# Altium integrated library rcl_PTH.IntLib: 10 symbols (part 1 of 2)
Pins are listed as number, name and electrical type; pins without a type are passive.

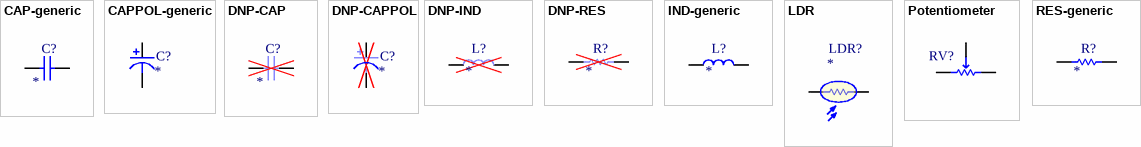
[diagram p0: symbols CAP-generic to RES-generic]

## CAP-generic
designator C?
Ceramic Capacitor PTH; Populated: Yes; Value: *; Manuf1: *; Manuf2: *; Manuf1Partnumber: *; Manuf2Partnumber: *; ClassName: *; ROHS: Yes; LifeCycle: Checked; HelpURL: *; Voltage: *
footprint C025-024X044
footprint C025-025X050
footprint C025-030X050
footprint C025-040X050
footprint C025-050X050
footprint C025-060X050
footprint C025_050-024X070
footprint C025_050-025X075
footprint C025_050-035X075
footprint C025_050-045X075
footprint C025_050-055X075
footprint C050-024X044
footprint C050-025X075
footprint C050-030X075
footprint C050-035X075
footprint C050-045X075
footprint C050-050X075
footprint C050-055X075
footprint C050-075X075
footprint C075-032X103
footprint C075-042X103
footprint C075-052X106
footprint C075-063X106
footprint C102-043X133
footprint C102-054X133
footprint C102-064X133
footprint C102_152-062X184
footprint C150-054X183
footprint C150-064X183
footprint C150-072X183
footprint C150-084X183
footprint C150-091X182
footprint C225-062X268
footprint C225-074X268
footprint C225-087X268
footprint C225-108X268
footprint C225-113X268
footprint C275-093X316
footprint C275-113X316
footprint C275-134X316
footprint C275-154X316
footprint C275-173X316
footprint C275-205X316
footprint EU25-10
footprint EU35-10
footprint EU35-12
footprint EU43-14
footprint EU45-16
footprint EU45-18
footprint XC10B5
footprint XC10B6
footprint XC15B5
footprint XC15B6
footprint XC15B8
footprint XC15B10
footprint XC22B7
footprint XC22B10
footprint XC27B11
footprint XC27B13
footprint XC27B15
footprint XC27B18
footprint XC27B21
footprint YC7B5
footprint YC10B4
footprint YC10B5
footprint YC12B5
footprint YC15B5
footprint YC15B6
footprint YC15B7
footprint YC22B7
footprint C Disc 5x2.5-2.5
footprint C Disc 8x2.5-5.0 (C Disc 5x2.5-5.0)
footprint C907U102MYVDBA7317
footprint PHE840MB6100MB05R17
footprint CAPAD1270-800X400 (Capacitor Axial, Pin spacing 12.7mm - Body Length 8mm X Body Diameter 4mm)
footprint CAPAD1524-1100X500 (Capacitor Axial, Pin spacing 15.24mm - Body Length 11mm X Body Diameter 5.0mm)
footprint CAPAD1778-1290X450 (Capacitor Axial, Pin spacing 17.78mm - Body Length 12.9mm X Body Diameter 4.5mm)
footprint CAPAD4830-4200X2700 (Capacitor Axial, Pin spacing 48.3mm - Body Length 42mm X Body Diameter 27mm)
footprint CAPAD3556-3150X1650 (Capacitor Axial, Pin spacing 35.56mm - Body Length 31.5mm X Body Diameter 16.5mm)
footprint CAPAD4830-4230X810 (Capacitor Axial, Pin spacing 48.3mm - Body Length 42.3mm X Body Diameter 8.1mm)
footprint CAPAD4830-4230X1470 (Capacitor Axial, Pin spacing 48.3mm - Body Length 42.3mm X Body Diameter 14.7mm)
footprint CAPAD4880-4400X3200 (Capacitor Axial, Pin spacing 48.8mm - Body Length 44mm X Body Diameter 32mm)
footprint CAPAD5080-4600X3300 (Capacitor Axial, Pin spacing 50.8mm - Body Length 46mm X Body Diameter 33mm)
footprint CAPAD5080-4600X3900 (Capacitor Axial, Pin spacing 50.8mm - Body Length 46mm X Body Diameter 39mm)
footprint CAPAD6800-5800X3450 (Capacitor Axial Diameter, Pin spacing 68mm - Body Length 58mm X Body Diameter 34.5mm)
footprint CAPAD7770-6770X2690 (Capacitor Axial, Pin spacing 77.7mm - Body Length 67.7mm X Body Diameter 26.9mm)
footprint CAPADV1650-4400X2700 (Capacitor Axial, Vertical Mount, Pin Spacing 16.5mm, Body Length 44mm X Body Diameter 27mm)
footprint CAPAR3810-1010X3400X2100 (Capacitor Axial Rectangular, Pin spacing 38.1mm - Body With 10.1mm X Body Length 34mm X Body Height 21mm)
footprint CAPA_CDE_941C16W1K-F (Capacitor Axial, Pin spacing 56mm - Body Length 46mm X Body Width 42.5mm Body Height 33.1mm)
footprint CAPA_CDE_941C16W1P5K-F (Capacitor Axial, Pin spacing 64mm - Body Length 54mm X Body Width 47mm Body Height 34.5mm)
footprint CAPR500-250X720X650 (Capacitor Radial, Pin spacing 5.0mm - Body With 2.5mm X Body Length 7.2mm X Body Height 6.5mm)
footprint CAPR500-300X720X650 (Capacitor Radial, Pin spacing 5.0mm - Body With 3.0mm X Body Length 7.2mm X Body Height 6.5mm)
footprint CAPR500-350X720X800 (Capacitor Radial, Pin spacing 5.0mm - Body With 3.5mm X Body Length 7.2mm X Body Height 8mm)
footprint CAPR500-350X720X850 (Capacitor Radial, Pin spacing 5.0mm - Body With 3.5mm X Body Length 7.2mm X Body Height 8.5mm)
footprint CAPR500-450X720X600 (Capacitor Radial, Pin spacing 5.0mm - Body With 4.5mm X Body Length 7.2mm X Body Height 6mm)
footprint CAPR500-450X720X600_a (Capacitor Radial, Pin spacing 5.0mm - Body With 4.5mm X Body Length 7.2mm X Body Height 6mm)
footprint CAPR500-450X730X950 (Capacitor Radial, Pin spacing 5.0mm - Body With 4.5mm X Body Length 7.3mm X Body Height 9.5mm)
footprint CAPR500-550X720X700 (Capacitor Radial, Pin spacing 5.0mm - Body With 5.5mm X Body Length 7.2mm X Body Height 7mm)
footprint CAPR500-600X720X1110 (Capacitor Radial, Pin spacing 5.0mm - Body With 6mm X Body Length 7.2mm X Body Height 11.1mm)
footprint CAPR500-600X750X1050 (Capacitor Radial, Pin spacing 5.0mm - Body Width 6mm X Body Length 7.5mm X Body Height 10.5mm)
footprint CAPR500-720X750X900 (Capacitor Radial, Pin spacing 5.0mm - Body With 7.2mm X Body Length 7.5mm X Body Height 9mm)
footprint CAPR500-750X750X900 (Capacitor Radial, Pin spacing 5.0mm - Body With 7.5mm X Body Length 7.5mm X Body Height 9mm)
footprint CAPR500-780X780X1300 (Capacitor Radial, Pin spacing 5.0mm - Body With 7.8mm X Body Length 7.8mm X Body Height 13mm)
footprint CAPR500-850X720X1400 (Capacitor Radial, Pin spacing 5.0mm - Body With 8.5mm X Body Length 7.2mm X Body Height 14mm)
footprint CAPR500-900X750X1100 (Capacitor Radial, Pin spacing 5.0mm - Body With 9mm X Body Length 7.5mm X Body Height 11mm)
footprint CAPR750-570X1030X1250 (Capacitor Radial, Pin spacing 7.5mm - Body With 5.7mm X Body Length 10.3mm X Body Height 12.5mm)
footprint CAPR750-720X1030X1250 (Capacitor Radial, Pin spacing 7.5mm - Body With 7.2mm X Body Length 10.3mm X Body Height 12.5mm)
footprint CAPR762-250X1000X650 (Capacitor Radial, Pin spacing 7.62mm - Body With 2.5mm X Body Length 10mm X Body Height 6.5mm)
footprint CAPR762-300X1000X800 (Capacitor Radial, Pin spacing 7.62mm - Body With 3mm X Body Length 10mm X Body Height 8mm)
footprint CAPR1000-400X1250X1000 (Capacitor Radial, Pin spacing 10mm - Body With 4mm X Body Length 12.5mm X Body Height 10mm)
footprint CAPR1000-400X1300X900 (Capacitor Radial, Pin spacing 10mm - Body With 4mm X Body Length 13mm X Body Height 9mm)
footprint CAPR1000-400X1300X950 (Capacitor Radial, Pin spacing 10mm - Body With 4mm X Body Length 13mm X Body Height 9.5mm)
footprint CAPR1000-500X1300X1100 (Capacitor Radial, Pin spacing 10mm - Body With 5mm X Body Length 13mm X Body Height 11mm)
footprint CAPR1000-520X1320X1200 (Capacitor Radial, Pin spacing 10mm - Body With 5mm X Body Length 13mm X Body Height 11mm)
footprint CAPR1000-600X1300X1200 (Capacitor Radial, Pin spacing 10mm - Body With 6mm X Body Length 13mm X Body Height 12mm)
footprint CAPR1020-390X1350X750 (Capacitor Radial, Pin spacing 10.2mm - Body With 3.9mm X Body Length 13.5mm X Body Height 7.5mm)
footprint CAPR1020-510X1350X1050 (Capacitor Radial, Pin spacing 10.2mm - Body With 5.1mm X Body Length 13.5mm X Body Height 10.5mm)
footprint CAPR1250-550X1550X1200 (Capacitor Radial, Pin spacing 12.5mm - Body With 5mm X Body Length 15mm X Body Height 11.5mm)
footprint CAPR1500-500X1800X1050 (Capacitor Radial, Pin spacing 15.0mm - Body With 5mm X Body Length 18mm X Body Height 10.5mm)
footprint CAPR1500-500X1800X1100 (Capacitor Radial, Pin spacing 15.0mm - Body Width 5mm X Body Length 18mm X Body Height 11mm)
footprint CAPR1500-530X1780X1330 (Capacitor Radial, Pin spacing 15.0mm - Body With 5mm X Body Length 17.5mm X Body Height 13mm)
footprint CAPR1500-550X1800X1050 (Capacitor Radial, Pin spacing 15.0mm - Body With 5.5mm X Body Length 18mm X Body Height 10.5mm)
footprint CAPR1500-600X1800X1250 (Capacitor Radial, Pin spacing 15.0mm - Body With 6mm X Body Length 18mm X Body Height 12.5mm)
footprint CAPR1500-650X1800X1250 (Capacitor Radial, Pin spacing 15.0mm - Body With 6.5mm X Body Length 18mm X Body Height 12.5mm)
footprint CAPR1500-700X1750X1350 (Capacitor Radial, Pin spacing 15.0mm - Body With 7mm X Body Length 17.5mm X Body Height 13.5mm)
footprint CAPR1500-700X1800X1250 (Capacitor Radial, Pin spacing 15.0mm - Body With 7mm X Body Length 18mm X Body Height 12.5mm)
footprint CAPR1500-700X1800X1400 (Capacitor Radial, Pin spacing 15.0mm - Body With 7mm X Body Length 18mm X Body Height 14mm)
footprint CAPR1500-800X1800X1500 (Capacitor Radial, Pin spacing 15.0mm - Body With 8mm X Body Length 18mm X Body Height 15mm)
footprint CAPR1500-900X1800X1750 (Capacitor Radial, Pin spacing 15.0mm - Body Width 9mm X Body Length 18mm X Body Height 17.5mm)
footprint CAPR1500-1000X1800X1800 (Capacitor Radial, Pin spacing 15.0mm - Body Width 10mm X Body Length 18mm X Body Height 18mm)
footprint CAPR1520-520X1850X1050 (Capacitor Radial, Pin spacing 15.2mm - Body With 5.2mm X Body Length 18.5mm X Body Height 10.5mm)
footprint CAPR1520-1050X1850X1050 (Capacitor Radial, Pin spacing 15.2mm - Body With 10.5mm X Body Length 18.5mm X Body Height 10.5mm)
footprint CAPR2250-600X2650X1500 (Capacitor Radial, Pin spacing 22.5.0mm - Body With 6mm X Body Length 26.5mm X Body Height 15mm)
footprint CAPR2250-600X2650X1500_A (Capacitor Radial, Pin spacing 22.5.0mm - Body With 6mm X Body Length 26.5mm X Body Height 15mm)
footprint CAPR2250-700X2600X1600 (Capacitor Radial, Pin spacing 22.5.0mm - Body With 7mm X Body Length 26.5mm X Body Height 16mm)
footprint CAPR2250-700X2650X1650 (Capacitor Radial, Pin spacing 22.5.0mm - Body With 7mm X Body Length 26.5mm X Body Height 16.5mm)
footprint CAPR2250-800X2700X1700 (Capacitor Radial, Pin spacing 22.5mm - Body Width 8mm X Body Length 27mm X Body Height 17mm)
footprint CAPR2250-820X2580X1760 (Capacitor Radial, Pin spacing 22.5mm - Body With 8.2mm X Body Length 25.8mm X Body Height 17.6mm)
footprint CAPR2250-850X2650X1650 (Capacitor Radial, Pin spacing 22.5mm - Body With 8.5mm X Body Length 26.5mm X Body Height 16.5mm)
footprint CAPR2250-850X2650X1850 (Capacitor Radial, Pin spacing 22.5mm - Body With 8.5mm X Body Length 26.5mm X Body Height 18.5mm)
footprint CAPR2250-900X2600X1800 (Capacitor Radial, Pin spacing 22.5mm - Body With 9mm X Body Length 26mm X Body Height 18mm)
footprint CAPR2250-1050X2650X1650 (Capacitor Radial, Pin spacing 22.5mm - Body With 10.5mm X Body Length 26.5mm X Body Height 16.5mm)
footprint CAPR2250-1050X2650X1900 (Capacitor Radial, Pin spacing 22.5mm - Body With 10.5mm X Body Length 26.5mm X Body Height 19mm)
footprint CAPR2250-1050X2650X2050 (Capacitor Radial, Pin spacing 22.5mm - Body With 10.5mm X Body Length 26.5mm X Body Height 20.5mm)
footprint CAPR2250-1100X2650X2050 (Capacitor Radial, Pin spacing 22.5mm - Body With 11mm X Body Length 26.5mm X Body Height 20.5mm)
footprint CAPR2250-1100X2650X2100 (Capacitor Radial, Pin spacing 22.5mm - Body With 11mm X Body Length 26.5mm X Body Height 21mm)
footprint CAPR2250-1200X2700X2200 (Capacitor Radial, Pin spacing 22.5mm - Body With 12mm X Body Length 27mm X Body Height 22mm)
footprint CAPR2750-900X3100X1900 (Capacitor Radial, Pin spacing 27.5mm - Body Width 9mm X Body Length 31mm X Body Height 19mm)
footprint CAPR2750-900X3150X1900 (Capacitor Radial, Pin spacing 27.5mm - Body Width 9mm X Body Length 31.5mm X Body Height 19mm)
footprint CAPR2750-1100X3150X2100 (Capacitor Radial, Pin spacing 27.5mm - Body With 11mm X Body Length 31.5mm X Body Height 21mm)
footprint CAPR2750-1100X3150X2100_A (Capacitor Radial, Pin spacing 27.5mm - Body With 11mm X Body Length 31.5mm X Body Height 21mm)
footprint CAPR2750-1100X3200X2100 (Capacitor Radial, Pin spacing 27.5mm - Body With 11mm X Body Length 32mm X Body Height 21mm)
footprint CAPR2750-1300X3150X2400 (Capacitor Radial, Pin spacing 27.5mm - Body With 13mm X Body Length 31.5mm X Body Height 24mm)
footprint CAPR2750-1350X3150X2300 (Capacitor Radial, Pin spacing 27.5mm - Body With 13.5mm X Body Length 31.5mm X Body Height 23mm)
footprint CAPR2750-1500X3150X2600 (Capacitor Radial, Pin spacing 27.5mm - Body With 15.0mm X Body Length 31.5mm X Body Height 26mm)
footprint CAPR2750-1700X3150X2900 (Capacitor Radial, Pin spacing 27.5mm - Body With 17mm X Body Length 31.5mm X Body Height 29mm)
footprint CAPR2750-1700X3150X3450 (Capacitor Radial, Pin spacing 27.5mm - Body With 17mm X Body Length 31.5mm X Body Height 34.5mm)
footprint CAPR2750-1800X3150X2750 (Capacitor Radial, Pin spacing 27.5mm - Body With 18mm X Body Length 31.5mm X Body Height 27.5mm)
footprint CAPR2750-1800X3200X2800 (Capacitor Radial, Pin spacing 27.5mm - Body With 18mm X Body Length 32mm X Body Height 28mm)
footprint CAPR2750-2000X3200X3500 (Capacitor Radial, Pin spacing 27.5mm - Body With 20mm X Body Length 32mm X Body Height 35mm)
footprint CAPR2750-2200X3150X3650 (Capacitor Radial, Pin spacing 27.5mm - Body With 22mm X Body Length 31.5mm X Body Height 36.5mm)
footprint CAPR3750-1400X4150X2500 (Capacitor Radial, Pin spacing 37.5mm - Body Width 14mm X Body Length 41.5mm X Body Height 25mm)
footprint CAPR3750-1700X4150X2900 (Capacitor Radial, Pin spacing 37.5mm - Body Width 17mm X Body Length 41.5mm X Body Height 29mm)
footprint CAPR3750-1900X4150X3200 (Capacitor Radial, Pin spacing 37.5mm - Body With 19mm X Body Length 41.5mm X Body Height 32mm)
footprint CAPR3750-1950X4200X3400 (Capacitor Radial, Pin spacing 37.5mm - Body With 19.5mm X Body Length 42mm X Body Height 34mm)
footprint CAPR3750-2000X4150X3950 (Capacitor Radial, Pin spacing 37.5mm - Body Width 20mm X Body Length 41.5mm X Body Height 39.5mm)
footprint CAPR3750-2000X4150X3950_a (Capacitor Radial, Pin spacing 37.5mm - Body Width 20mm X Body Length 41.5mm X Body Height 39.5mm)
footprint CAPR3750-2030X4180X4010 (Capacitor Radial, Pin spacing 37.5mm - Body With 20.3mm X Body Length 41.8mm X Body Height 40.1mm)
footprint CAPR3750-2150X4300X3850 (Capacitor Radial, Pin spacing 37.5mm, Body Width 21.5mm X Body Length 43mm X Body Height 38.5mm)
footprint CAPR3750-2150X4300X3850-Q4 (Capacitor Radial, 4 Pin spacing 37.5mm X 10.2mm, Body Width 21.5mm X Body Length 43mm X Body Height 38.5mm)
footprint CAPR3750-2400X4150X1900 (Capacitor Radial, Pin spacing 37.5mm - Body With 24mm X Body Length 41.5mm X Body Height 19mm)
footprint CAPR3750-2400X4150X4550 (Capacitor Radial, Pin spacing 37.5mm - Body With 24mm X Body Length 41.5mm X Body Height 45.5mm)
footprint CAPR3750-2400X4200X1800 (Capacitor Radial, Pin spacing 37.5mm - Body With 24mm X Body Length 42mm X Body Height 18mm)
footprint CAPR3750-2800X4150X4250 (Capacitor Radial, Pin spacing 37.5mm - Body With 28mm X Body Length 41.5mm X Body Height 42.5mm)
footprint CAPR3750-3000X4200X4500 (Capacitor Radial, Pin spacing 37.5mm, Body Width 30mm X Body Length 42mm X Body Height 45mm)
footprint CAPR3850-2000X4150X3950 (Capacitor Radial, Pin spacing 38.5mm - Body With 20mm X Body Length 41.5mm X Body Height 39.5mm)
footprint CAPRB1000W60L800T500H1200 (Capacitor Radial Disk Button, Lead spacing 10mm - Body Diameter 8mm X Body Width 5mm X Body Height 12mm)
footprint CAPRB_MURATA_DE2F3KY103MA3BM02 (Capacitor Radial Button, Pin spacing 7.62mm - Body Diameter  14mm X Body Width 5mm X Body Height 17mm)
footprint CAPRB_MURATA_DEBE33D103ZA3B (Capacitor Radial Button, Pin spacing 7.5mm - Body Diameter  16mm X Body Width 5mm X Body Height 19mm)
footprint CAPRB_MURATA_DEBF33D472ZN2A (Capacitor Radial Button, Pin spacing 5mm - Body Diameter  9mm X Body Width 5mm X Body Height 12mm)
footprint CAPRB_MURATA_DEC1X3J150JC4B (Capacitor Radial Button, Pin spacing 10mm - Body Diameter  8mm X Body Width 7mm X Body Height 11mm)
footprint CAPRB_MURATA_DEC1X3J220JC4B (Capacitor Radial Button, Pin spacing 10mm - Body Diameter  9mm X Body Width 7mm X Body Height 12mm)
footprint CAPRB_MURATA_DECB33J101KC4B (Capacitor Radial Button, Pin spacing 7.62mm - Body Diameter  9mm X Body Width 7mm X Body Height 12mm)
footprint CAPRB_MURATA_DECB33J101KC4B_a (Capacitor Radial Button, Pin spacing  10mm - Body Diameter  9mm X Body Width 7mm X Body Height 12mm)
footprint CAPRB_MURATA_DECB33J471KC4B (Capacitor Radial Button, Pin spacing 7.62mm - Body Diameter  10mm X Body Width 7mm X Body Height 12mm)
footprint CAPRB_MURATA_DHR4E4C102K2FB (Capacitor Radial Button, Pin spacing 12.7mm - Body Diameter  18mm X Body Width 8.2mm X Body Height 22mm)
footprint CAPRB_MURATA_DHRE4AD222Z4QB (Capacitor Radial Button, Pin spacing 9.5mm - Body Diameter  15mm X Body Width 7mm X Body Height 20mm)
footprint CAPRB_VISHAY_D229C20C0JH63L2R (Capacitor Radial Button, Pin spacing 2.5mm - Body Diameter  5mm X Body Width 3.5mm X Body Height 6.5mm)
footprint CAPRB_VISHAY_WYO472 (Capacitor Radial Button, Pin spacing 2.5mm - Body Diameter  12mm X Body Width 4.5mm X Body Height 15mm)
footprint CAPRD_ELECTRONICON_E54.G12-144P31 (Capacitor Radial Diameter, 5 Pin - Body Length 120mm X Body Diameter 50mm)
footprint CAPRD_ELECTRONICON_E54.G95-803P30 (Capacitor Radial Diameter, 5 Pin - Body Length 95mm X Body Diameter 50mm)
footprint CAPRD_ELECTRONICON_E54.G95-803P31 (Capacitor Radial Diameter, 5 Pin - Body Length 95mm X Body Diameter 50mm)
footprint CAPRR250-250X400X550 (Capacitor Radial, Pin spacing 2mm - Body With 2.5mm X Body Length 4mm X Body Height 5.5mm)
footprint CAPRR254-140X450X600 (Capacitor Radial, Pin spacing 2.54mm - Body With 1.4mm X Body Length 4.5mm X Body Height 6mm)
footprint CAPRR254-254X381X381 (Capacitor Radial Rounded, Pin spacing 2.54mm - Body With 2.54mm X Body Length 3.81mm X Body Height 3.81mm)
footprint CAPRR254-254X381X508 (Capacitor Radial Rounded, Pin spacing 2.54mm - Body With 2.54mm X Body Length 3.81mm X Body Height 5.08mm)
footprint CAPRR254-254X381X685 (Capacitor Radial Rounded (KEMET C315), Pin spacing 2.54mm - Body With 2.54mm X Body Length 3.81mm X Body Height 6.85mm)
footprint CAPRR254-254X500X350 (Capacitor Radial, Pin spacing 2.54mm - Body With 2.54mm X Body Length 5.00mm X Body Height 3.5mm)
footprint CAPRR254-318X508X660 (Capacitor Radial Rounded, Pin spacing 2.54mm - Body With 3.18mm X Body Length 5.08mm X Body Height 6.6mm)
footprint CAPRR254-318X508X812 (Capacitor Radial Rounded, (KEMET C320) Pin spacing 2.54mm - Body With 3.18mm X Body Length 5.08mm X Body Height 8.12mm (6.6+1.52))
footprint CAPRR500-350X550X600 (Capacitor Radial, Pin spacing 2mm - Body With 3.5mm X Body Length 5.5mm X Body Height 6mm)
footprint CAPRR500-400X550X1000 (Capacitor Radial Rounded, Pin spacing 5.00mm - Body With 4.00mm X Body Length 5.50mm X Body Height 10mm)
footprint CAPRR500-430X790X720 (Capacitor Radial Rounded, Pin spacing 5.00mm - Body With 4.30mm X Body Length 7.90mm X Body Height 7.2mm)
footprint CAPRR508-250X750X700 (Capacitor Radial Rounded, Pin spacing 5.08mm - Body With 2.5mm X Body Length 7.5mm X Body Height 7.0mm)
footprint CAPRR508-254X381X584 (Capacitor Radial Rounded (KEMET C317), Pin spacing 5.08mm - Body With 2.54mm X Body Length 3.81mm X Body Height 5.84mm)
footprint CAPRR508-318X508X660 (Capacitor Radial Rounded (KEMET C322), Pin spacing 5.08mm - Body With 3.18mm X Body Length 5.08mm X Body Height 6.6mm)
footprint CAPRR508-320X500X630 (Capacitor Radial Rounded, Pin spacing 5.08mm - Body With 3.2mm X Body Length 5.0mm X Body Height 6.3mm)
footprint CAPRR508-350X500X500 (Capacitor Radial Rounded, Pin spacing 5.08mm - Body With 3.2mm X Body Length 5.0mm X Body Height 5.0mm)
footprint CAPRR508-350X650X700 (Capacitor Radial Rounded, Pin spacing 5.08mm - Body With 3.5mm X Body Length 6.5mm X Body Height 7mm)
footprint CAPRR508-381X1016X1016 (Capacitor Radial Rounded, Pin spacing 5.08mm - Body With 3.81mm X Body Length 10.16mm X Body Height 10.16mm)
footprint CAPRR508-381X1016X1320 (Capacitor Radial Rounded, Pin spacing 5.08mm - Body With 3.81mm X Body Length 10.16mm X Body Height 13.2mm)
footprint CAPRR508-508X762X914 (Capacitor Radial Rounded, Pin spacing 5.08mm - Body With 5.08mm X Body Length 7.62mm X Body Height 9.14mm)
footprint CAPRR590-430X1140X910 (Capacitor Radial Rounded, Pin spacing 5.9mm - Body With 4.3mm X Body Length 11.4mm X Body Height 9.1mm)
footprint CAPRR1016-400X550X1000 (Capacitor Radial Rounded, Pin spacing 10.160mm - Body With 4.00mm X Body Length 5.50mm X Body Height 10mm)
footprint CAPRR1400-400X550X1000 (Capacitor Radial Rounded, Pin spacing 14mm - Body With 4.00mm X Body Length 5.50mm X Body Height 10mm)
footprint CAPRR1460-689X1702X1676 (Capacitor Radial Rounded, Pin spacing 16.6mm - Body Width 6.89mm X Body Length 17.02mm X Body Height 15.24mm)
footprint CAPRR1714-689X1956X1829 (Capacitor Radial Rounded, Pin spacing 17.14mm - Body Width 6.89mm X Body Length 19.56mm X Body Height 18.29mm)
footprint CAPRR2750-1300X3000X2600 (Capacitor Radial Rounded, Pin spacing 27.5mm - Body Width 13mm X Body Length 30mm X Body Height 26mm)
footprint CAPRR2794-2100X3300X3000 (Capacitor Radial Rectangular, Pin spacing 27.94mm - Body With 20mm X Body Length 32mm X Body Height 29mm)
footprint CAPRR4850W120L5600T3300H4800Q4 (Capacitor Non Polarized Radial Rectangular, 4 Pin, Lead spacing 48.5mm - Body Length 56mm X Body Thickness 33mm X Body Height 48mm)
footprint CAPRR5250W120L5700T3500H5000Q4 (Capacitor Non Polarized Radial Rectangular, 4 Pin, Lead Spacing 52.5mm - Body Length 57mm X Body Thickness 35mm X Body Height 50mm)
footprint CAPRR5250W120L5700T4500H6500Q4 (Capacitor Non Polarized Radial Rectangular, 4 Pin, Lead spacing 52.5mm - Body Length 57mm X Body Thickness 45mm X Body Height 65mm)
footprint CAPV_JOHANSON_8052 (Air Trimmer Capacitor, Body D 7.49mm x H 11.68, 8052 Series)
footprint CAPR_AVX_FFV3 (Capacitor Radial, 4 Pin spacing 30mm X 25mm, Body Width 36mm X Body Length 40mm X Body Height 40mm)
footprint CAPR_LCR_EXFS-HR-1NF (Capacitor Radial, Pin spacing 5.08mm X 5.08mm - Body With 7.5mm X Body Length 7.5mm X Body Height 13mm)
footprint CAPR_VISHAY_MKP1848550704K2 (Capacitor Radial, Pin spacing 27.5mm - Body With 15mm X Body Length 32mm X Body Height 25.5mm)
footprint CAPR_VISHAY_MKP1848580704K2 (Capacitor Radial, Pin spacing 27.5mm - Body With 18mm X Body Length 32mm X Body Height 28.5mm)
footprint CAPR_VISHAY_MKP1848620704P4 (Capacitor Radial, Pin spacing 37.5.5X10.2mm - Body With 21.5mm X Body Length 43mm X Body Height 39mm)
footprint CAPR_VISHAY_MKP1848630094Y5 (Capacitor Radial, Pin spacing 52.5X20.3mm - Body With 30mm X Body Length 57.5mm X Body Height 45mm)
footprint CAPR_WIMA_SNMPT041007HFS (Capacitor Radial, Rectangular Pin spacing 38.5mm - Body With 24mm X Body Length 41.5mm X Body Height 45.5mm)
pins: 1, 2

## CAPPOL-generic
designator C?
Polarized Capacitor PTH; Populated: Yes; Value: *; Manuf1: *; Manuf2: *; Manuf1Partnumber: *; Manuf2Partnumber: *; ClassName: *; ROHS: Yes; LifeCycle: Checked; HelpURL: *; Voltage: *
footprint B45181A
footprint B45181B
footprint B45181C
footprint B45181D
footprint E1,8-4
footprint E2,5-4R
footprint E2,5-5
footprint E2,5-6
footprint E2,5-6E
footprint E2,5-7
footprint E2,5RE
footprint E2-4
footprint E2-5
footprint E3,5-8
footprint E3,5-10
footprint E5-4
footprint E5-5
footprint E5-6
footprint E5-8,5
footprint E5-10,5
footprint E5-13
footprint E5R
footprint E7,5-16
footprint E7,5-18
footprint E15-5
footprint E15-6
footprint E15-9
footprint E22-6
footprint E22-9
footprint E22-10
footprint E25-9
footprint E25-10
footprint E30-10
footprint E30-12
footprint E30-16
footprint E35-12
footprint E35-14
footprint E35-16
footprint E35-18
footprint E45-16
footprint E45-18
footprint E45-21
footprint E45-22
footprint E45-25
footprint E50-25
footprint E50-30
footprint E55-25
footprint E55-30
footprint EB20D
footprint EB22,5D
footprint EB25D
footprint EB30D
footprint EB35D
footprint ETR1
footprint ETR2
footprint ETR3
footprint ETR4
footprint ETR5
footprint P128-35
footprint P128-40
footprint P128-50
footprint P128-60
footprint TAP5-45
footprint TAP5-50
footprint TAP5-60
footprint TAP5-70
footprint TAP5-80
footprint TT2D4
footprint TT2D4L
footprint TT2D5
footprint TT2D5L
footprint TT2D6
footprint TT2D6L
footprint TT2D7
footprint TT2D7L
footprint TT5D9
footprint TT5D7L
footprint TT5D10
footprint TT5D11
footprint TT5D11L
footprint C Elec TH V 18x35-7.5 (C Elec TH 18x35 7.5mm pitch)
footprint C Elec TH V 4x7-2.5 (C Elec TH 4x7 2.5mm pitch)
footprint CAP AL TH D10 L5 H12.5 (10MM Diameter, 5MM Lead Spacing Aluminium Capacitor)
footprint CAP AL TH D10 L5 H14.5 (10MM Diameter, 5MM Lead Spacing Aluminium Capacitor)
footprint CAP AL TH D10 L5 H17.5 (10MM Diameter, 5MM Lead Spacing Aluminium Capacitor)
footprint CAP AL TH D10 L5 H22 (10MM Diameter, 5MM Lead Spacing Aluminium Capacitor)
footprint CAP AL TH D10 L5 H30 (10MM Diameter, 5MM Lead Spacing Aluminium Capacitor)
footprint CAP AL TH D12.5 L5 H14 (12.5MM Diameter, 5MM Lead Spacing Aluminium Capacitor)
footprint CAP AL TH D12.5 L5 H15 (12.5MM Diameter, 5MM Lead Spacing Aluminium Capacitor)
footprint CAP AL TH D12.5 L5 H16.5 (12.5MM Diameter, 5MM Lead Spacing Aluminium Capacitor)
footprint CAP AL TH D12.5 L5 H17.5 (12.5MM Diameter, 5MM Lead Spacing Aluminium Capacitor)
footprint CAP AL TH D12.5 L5 H20 (12.5MM Diameter, 5MM Lead Spacing Aluminium Capacitor)
footprint CAP AL TH D12.5 L5 H21.5 (12.5MM Diameter, 5MM Lead Spacing Aluminium Capacitor)
footprint CAP AL TH D12.5 L5 H22 (12.5MM Diameter, 5MM Lead Spacing Aluminium Capacitor)
footprint CAP AL TH D12.5 L5 H25 (12.5MM Diameter, 5MM Lead Spacing Aluminium Capacitor)
footprint CAP AL TH D12.5 L5 H26.5 (12.5MM Diameter, 5MM Lead Spacing Aluminium Capacitor)
footprint CAP AL TH D12.5 L5 H27 (12.5MM Diameter, 5MM Lead Spacing Aluminium Capacitor)
footprint CAP AL TH D12.5 L5 H35.5 (12.5MM Diameter, 5MM Lead Spacing Aluminium Capacitor)
footprint CAP AL TH D16 L7.5 H16.5 (16MM Diameter, 7.5MM Lead Spacing Aluminium Capacitor)
footprint CAP AL TH D16 L7.5 H20 (16MM Diameter, 7.5MM Lead Spacing Aluminium Capacitor)
footprint CAP AL TH D16 L7.5 H22 (16MM Diameter, 7.5MM Lead Spacing Aluminium Capacitor)
footprint CAP AL TH D16 L7.5 H26.5 (16MM Diameter, 7.5MM Lead Spacing Aluminium Capacitor)
footprint CAP AL TH D16 L7.5 H27 (16MM Diameter, 7.5MM Lead Spacing Aluminium Capacitor)
footprint CAP AL TH D16 L7.5 H33.5 (16MM Diameter, 7.5MM Lead Spacing Aluminium Capacitor)
footprint CAP AL TH D16 L7.5 H37 (16MM Diameter, 7.5MM Lead Spacing Aluminium Capacitor)
footprint CAP AL TH D22 L10 H14.5 (16MM Diameter, 7.5MM Lead Spacing Aluminium Capacitor)
footprint CAP AL TH D22 L10 H33 (16MM Diameter, 7.5MM Lead Spacing Aluminium Capacitor)
footprint CAP AL TH D22 L10 H43 (16MM Diameter, 7.5MM Lead Spacing Aluminium Capacitor)
footprint CAP AL TH D22 L10 H53 (16MM Diameter, 7.5MM Lead Spacing Aluminium Capacitor)
footprint CAP AL TH D25 L12.5 H14.5 (16MM Diameter, 7.5MM Lead Spacing Aluminium Capacitor)
footprint CAP AL TH D25 L12.5 H32 (16MM Diameter, 7.5MM Lead Spacing Aluminium Capacitor)
footprint CAP AL TH D25 L12.5 H42 (16MM Diameter, 7.5MM Lead Spacing Aluminium Capacitor)
footprint CAP AL TH D22 L10 H53 (16MM Diameter, 7.5MM Lead Spacing Aluminium Capacitor)
footprint CAP AL TH D25 L12.5 H52 (16MM Diameter, 7.5MM Lead Spacing Aluminium Capacitor)
footprint CAPPA1524-1050X500 (Capacitor Axial, Pin spacing 15.24mm - Body Length 10.5mm X Body Diameter 5.0mm)
footprint CAPPA1524-1050X630 (Capacitor Axial, Pin spacing 15.24mm - Body Length 10.5mm X Body Diameter 6.3mm)
footprint CAPPA1651-1150X850 (Capacitor Axial, Pin spacing 16.51mm - Body Length 11.5mm X Body Diameter 8.5mm)
footprint CAPPA1905-1549X511 (Capacitor Axial, Pin spacing 16.51mm - Body Length 15.49mm X Body Diameter 5.11mm)
footprint CAPPA2540-1850X690 (Capacitor Axial, Pin spacing 25.4mm - Body Length 18.5mm X Body Diameter 6.9mm)
footprint CAPPA2540-1850X850 (Capacitor Axial, Pin spacing 25.4mm - Body Length 18.5mm X Body Diameter 8.5mm)
footprint CAPPA3556-3050X1300 (Capacitor Axial, Pin spacing 35.56mm - Body Length 30.5mm X Body Diameter 12.5mm)
footprint CAPPA3556-3050X1550 (Capacitor Axial, Pin spacing 35.56mm - Body Length 30.5mm X Body Diameter 15.5mm)
footprint CAPPA3810-3050X1300 (Capacitor Axial, Pin spacing 38.1mm - Body Length 30.5mm X Body Diameter 13mm)
footprint CAPPA4318-3800X2050 (Capacitor Axial, Pin spacing 43mm - Body Length 38mm X Body Diameter 20.5mm)
footprint CAPPR200-500X700 (Capacitor, Radial, Pin spacing 2.0mm - Body Diameter 5.0mm X Body Height 7mm)
footprint CAPPR200-500X1100 (Capacitor, Radial, Pin spacing 2.0mm - Body Diameter 5.0mm X Body Height 11mm)
footprint CAPPR200-550X1250 (Capacitor, Radial, Pin spacing 2.0mm - Body Diameter 5.0mm X Body Height 11mm)
footprint CAPPR250-500X1100 (Capacitor, Radial, Pin spacing 2.5mm - Body Diameter 5.0mm X Body Height 11mm)
footprint CAPPR250-630X1120 (Capacitor, Radial, Pin spacing 2.5mm - Body Diameter 6.3mm X Body Height 11.2mm)
footprint CAPPR250-680X600 (Capacitor, Radial, Pin spacing 2.5mm - Body Diameter 6.8mm X Body Height 6.0mm)
footprint CAPPR250-680X780 (Capacitor, Radial, Pin spacing 2.5mm - Body Diameter 6.8mm X Body Height 7.8mm)
footprint CAPPR250-680X800 (Capacitor, Radial, Pin spacing 2.5mm - Body Diameter 6.8mm X Body Height 7mm)
footprint CAPPR250-680X1080 (Capacitor, Radial, Pin spacing 2.5mm - Body Diameter 6.8mm X Body Height 10.8mm)
footprint CAPPR250-680X1250 (Capacitor, Radial, Pin spacing 2.5mm - Body Diameter 6.8mm X Body Height 12.5mm)
footprint CAPPR350-800X700 (Capacitor, Radial, Pin spacing 3.5mm - Body Diameter 8mm X Body Height 7mm)
footprint CAPPR350-800X1150 (Capacitor, Radial, Pin spacing 3.5mm - Body Diameter 8.0mm X Body Height 11.5mm)
footprint CAPPR350-850X600 (Capacitor, Radial, Pin spacing 3.5mm - Body Diameter 8.5mm X Body Height 6.0mm)
footprint CAPPR350-850X700 (Capacitor, Radial, Pin spacing 3.5mm - Body Diameter 8.5mm x Body Height 7.0mm)
footprint CAPPR350-850X800 (Capacitor, Radial, Pin spacing 3.5mm - Body Diameter 8.5mm x Body Height 8.0mm)
footprint CAPPR350-850X900 (Capacitor, Radial, Pin spacing 3.5mm - Body Diameter 8.5mm x Body Height 9.0mm)
footprint CAPPR350-850X1250 (Capacitor, Radial, Pin spacing 3.5mm - Body Diameter 8mm x Body Height 12mm)
footprint CAPPR350-850X1300 (Capacitor, Radial, Pin spacing 3.5mm - Body Diameter 8.5mm x Body Height 13mm)
footprint CAPPR350-850X1300_a (Capacitor, Radial, Pin spacing 3.5mm - Body Diameter 8.5mm x Body Height 13mm)
footprint CAPPR350-850X1600 (Capacitor, Radial, Pin spacing 3.5mm - Body Diameter 8.5mm x Body Height 16mm)
footprint CAPPR350-850X3100 (Capacitor, Radial, Pin spacing 3.5mm - Body Diameter 8.5mm x Body Height 31mm)
footprint CAPPR350W80D850H1300 (Capacitor, Radial, Pin spacing 3.5mm - Body Diameter 8.5mm x Body Height 13mm)
footprint CAPPR500-1000X1250 (Capacitor, Radial, Pin spacing 5.0mm - Body Diameter 10.0mm X Body Height 12.5mm)
footprint CAPPR500-1000X1600 (Capacitor, Radial, Pin spacing 5.0mm - Body Diameter 10.0mm X Body Height 16.0mm)
footprint CAPPR500-1000X2050 (Capacitor, Radial, Pin spacing 5.0mm - Body Diameter 10mm X Body Height 20.5mm)
footprint CAPPR500-1000X2500 (Capacitor, Radial, Pin spacing 5.0mm - Body Diameter 10.0mm X Body Height 25.0mm)
footprint CAPPR500-1050X800 (Capacitor, Radial, Pin spacing 5.0mm - Body Diameter 10.0mm X Body Height 8mm)
footprint CAPPR500-1050X1150 (Capacitor, Radial, Pin spacing 5.0mm - Body Diameter 10.5mm X Body Height 11.5mm)
footprint CAPPR500-1050X1300 (Capacitor, Radial, Pin spacing 5.0mm - Body Diameter 10mm (nom) X Body Height 13mm (max))
footprint CAPPR500-1050X1350 (Capacitor, Radial, Pin spacing 5.0mm - Body Diameter 10.5mm X Body Height 13.5mm)
footprint CAPPR500-1050X1400 (Capacitor, Radial, Pin spacing 5.0mm - Body Diameter 10.5mm X Body Height 14mm)
footprint CAPPR500-1050X1400_a (Capacitor, Radial, Pin spacing 5.0mm - Body Diameter 10.5mm X Body Height 14mm)
footprint CAPPR500-1050X1750 (Capacitor, Radial, Pin spacing 5.0mm - Body Diameter 10.5mm X Body Height 17.5mm)
footprint CAPPR500-1050X2150 (Capacitor, Radial, Pin spacing 5.0mm - Body Diameter 10mm X Body Height 20mm)
footprint CAPPR500-1050X2200 (Capacitor, Radial, Pin spacing 5.0mm - Body Diameter 10.5mm X Body Height 22mm)
footprint CAPPR500-1050X2230 (Capacitor, Radial, Pin spacing 5.0mm - Body Diameter 10.5mm X Body Height 22.3mm)
footprint CAPPR500-1300X1400 (Capacitor, Radial, Pin spacing 5.0mm - Body Diameter 13.0mm X Body Height 14mm)
footprint CAPPR500-1300X2150 (Capacitor, Radial, Pin spacing 5.0mm - Body Diameter 13.0mm X Body Height 21.5mm)
footprint CAPPR500-1300X2200 (Capacitor, Radial, Pin spacing 5.0mm - Body Diameter 13.0mm X Body Height 22.0mm)
footprint CAPPR500-1300X2700 (Capacitor, Radial, Pin spacing 5.0mm - Body Diameter 13.0mm X Body Height 27.0mm)
footprint CAPPR500-1300X3200 (Capacitor, Radial, Pin spacing 5.0mm - Body Diameter 13.0mm X Body Height 32.0mm)
footprint CAPPR500-1300X3650 (Capacitor, Radial, Pin spacing 5.0mm - Body Diameter max13.0mm X Body Height max 36.5mm)
footprint CAPPR500-1300X3700 (Capacitor, Radial, Pin spacing 5.0mm - Body Diameter max13.0mm X Body Height max 37.0mm)
footprint CAPPR500-1350X2200 (Capacitor, Radial, Pin spacing 5.0mm - Body Diameter 13.5mm X Body Height 22.0mm)
footprint CAPPR500-1350X2700 (Capacitor, Radial, Pin spacing 5.0mm - Body Diameter 13.5mm X Body Height 27mm)
footprint CAPPR750-1600X2000 (Capacitor, Radial, Pin spacing 7.5mm - Body Diameter 16.0mm X Body  Height 20.0mm)
footprint CAPPR750-1650X1600 (Capacitor, Radial, Pin spacing 7.5mm - Body Diameter 16.5mm X Body  Height 16mm)
footprint CAPPR750-1650X2200 (Capacitor, Radial, Pin spacing 7.5mm - Body Diameter 16.5mm X Body  Height 22.0mm)
footprint CAPPR750-1650X2650 (Capacitor, Radial, Pin spacing 7.5mm - Body Diameter 16.5mm X Body  Height 26.5m)
footprint CAPPR750-1650X2700 (Capacitor, Radial, Pin spacing 7.5mm - Body Diameter 16.5mm X Body  Height 27.0mm)
footprint CAPPR750-1650X3150 (Capacitor, Radial, Pin spacing 7.5mm - Body Diameter 16.5mm X Body  Height 31.5mm)
footprint CAPPR750-1650X3300 (Capacitor, Radial, Pin spacing 7.5mm - Body Diameter 16.5mm X Body  Height 33mm)
footprint CAPPR750-1650X3350 (Capacitor, Radial, Pin spacing 7.5mm - Body Diameter 16.5mm X Body  Height 33.5mm)
footprint CAPPR750-1650X3400 (Capacitor, Radial, Pin spacing 7.5mm - Body Diameter 16.5mm X Body  Height 34mm)
footprint CAPPR750-1650X4150 (Capacitor, Radial, Pin spacing 7.5mm - Body Diameter 16.5mm X Body  Height 41.5mm)
footprint CAPPR750-1850X2150 (Capacitor, Radial, Pin spacing 7.5mm - Body Diameter 18.5mm X Body  Height 21.5mm)
footprint CAPPR750-1850X2200 (Capacitor, Radial, Pin spacing 7.5mm - Body Diameter 18.5mm X Body  Height 22.0mm)
footprint CAPPR750-1850X2650 (Capacitor, Radial, Pin spacing 7.5mm - Body Diameter 18.5mm X Body  Height 26.5mm)
footprint CAPPR750-1850X3300 (Capacitor, Radial, Pin spacing 7.5mm - Body Diameter 18.5mm X Body  Height 33.0mm)
footprint CAPPR750-1850X3350 (Capacitor, Radial, Pin spacing 7.5mm - Body Diameter 18.5mm X Body  Height 33.0mm)
footprint CAPPR750-1850X3750 (Capacitor, Radial, Pin spacing 7.5mm - Body Diameter 18.5mm X Body  Height 37.5mm)
footprint CAPPR750-1850X4200 (Capacitor, Radial, Pin spacing 7.5mm - Body Diameter 18.5mm X Body  Height 42mm)
footprint CAPPR750-1850X4650 (Capacitor, Radial, Pin spacing 7.5mm - Body Diameter 18mm X Body  Height 45mm)
footprint CAPPR1000-2300X3700 (Capacitor, Radial, Pins spacing 10mm - Body Diameter 22mm X Body  Height 35mm)
footprint CAPPR1000-2300X3700-Q3 (Capacitor, Radial, 3 Pins spacing 10mm and 4.75mm - Body Diameter 23mm X Body  Height 37mm)
footprint CAPPR1000-2300X4200 (Capacitor, Radial, Pins spacing 10mm - Body Diameter 23mm X Body  Height 42mm)
footprint CAPPR1000-2600X3200 (Capacitor, Radial, Pins spacing 10mm - Body Diameter 26.0mm X Body  Height 32.0mm)
footprint CAPPR1000-2600X4700-Q3 (Capacitor, Radial, 3 Pins spacing 10mm and 4.75mm - Body Diameter 26.0mm X Body  Height 47.0mm)
footprint CAPPR1000-2640X3720 (Capacitor, Radial, Pins spacing 10mm - Body Diameter 26.4.0mm X Body  Height 37.2mm)
footprint CAPPR1000-3100X3200 (Capacitor, Radial, Pin spacing 10.0mm - Body Diameter 31.0mm X Body  Height 32.0mm)
footprint CAPPR1000-3100X4200 (Capacitor, Radial, Pin spacing 10.0mm - Body Diameter 31.0mm X Body  Height 42.0mm)
footprint CAPPR1000-3100X4200-Q3 (Capacitor, Radial, 3 Pins spacing 10mm and 4.75mm - Body Diameter 31mm X Body  Height 42mm)
footprint CAPPR1000-3600X4200 (Capacitor, Radial, Leads spacing 10mm - Body Diameter 35.0mm X Body  Height 40.0mm)
footprint CAPPR1000-3600X4700 (Capacitor, Radial, Leads spacing 10mm - Body Diameter 36.0mm X Body  Height 47.0mm)
footprint CAPPR1000-3600X5200 (Capacitor, Radial, Leads spacing 10mm - Body Diameter 35.0mm X Body  Height 50.0mm)
footprint CAPPR1000-3600X5200-Q3 (Capacitor, Radial, 3 Pins spacing 10mm and 4.75mm - Body Diameter 36.0mm X Body  Height 52.0mm)
footprint CAPPR1000-3640X5720 (Capacitor, Radial, Leads spacing 10mm - Body Diameter 36.4mm X Body  Height 57.2mm)
footprint CAPPR840-2300X4200 (Capacitor, Radial, Pins spacing 8.4mm - Body Diameter 23mm X Body  Height 42mm)
footprint CAPPR1750-3600X5500-Q4 (Capacitor, Radial, 4 Pins spacing 15mm and 17.5mm - Body Diameter 36.0mm X Body  Height 55.0mm)
footprint CAPPR2260-4100X8200-Q4 (Capacitor, Radial, 4 Pins spacing 22.6mm - Body Diameter 41mm X Body  Height 82mm)
footprint CAPPRB254-450X710 (Capacitor, Polarized Radial Bead, Pin spacing 2.54mm - Body Diameter 4.5mm X Body Height 7.1mm)
footprint CAPPRB254-500X840 (Capacitor, Polarized Radial Bead, Pin spacing 2.54mm - Body Diameter 5.5mm X Body Height 8.4mm)
footprint CAPPRB254-550X890 (Capacitor, Polarized Radial Bead, Pin spacing 2.54mm - Body Diameter 5.5mm X Body Height 8.9mm)
footprint CAPPRB254-550X900 (Capacitor, Polarized Radial Bead, Pin spacing 2.54mm - Body Diameter 5.5mm X Body Height 9mm)
footprint CAPPRB254-600X990 (Capacitor, Polarized Radial Bead, Pin spacing 2.54mm - Body Diameter 6.0mm X Body Height 9.9mm)
footprint CAPPRB254-600X1000 (Capacitor, Polarized Radial Bead, Pin spacing 2.54mm - Body Diameter 6.0mm X Body Height 10mm)
footprint CAPPRB508-450X850 (Capacitor, Polarized Radial Bead, Pin spacing 5.08mm - Body Diameter 4.5mm X Body Height 8.5mm)
footprint CAPPRB508-600X1150 (Capacitor, Polarized Radial Bead, Pin spacing 5.08mm - Body Diameter 6mm X Body Height 11.5mm)
footprint CAPPRB508-890X1550 (Capacitor, Polarized Radial Bead, Pin spacing 5.08mm - Body Diameter 8.9mm X Body Height 15.5mm)
footprint CAPPRB508-1020X1860 (Capacitor, Polarized Radial Bead, Pin spacing 5.08mm - Body Diameter 10.2mm X Body Height 18.6mm)
footprint CAPPR_KEMET_PEH200MJ5220MU2 (Capacitor, Radial, Leads spacing 22mm - Body Diameter 50mm X Body  Height 95mm)
footprint CAPPR_KEMET_PEH200ZZ4470MU2 (Capacitor, Radial, Leads spacing 32mm - Body Diameter 90mm X Body  Height 220mm)
footprint CAPPR_KEMET_PEH536(30X50)STYLE3 (Capacitor, Radial, 3 Pins spacing 10mm and 4.75mm - Body Diameter 30.5mm X Body  Height 51.0mm)
footprint CAPPR_KEMET_PEH536(35X50)STYLE3 (Capacitor, Radial, 3 Pins spacing 10mm and 4.75mm - Body Diameter 35.5mm X Body  Height 51.0mm)
footprint CAPPR_TDK_B41580A9478M000 (Radial Capacitor with Screw Terminals, Leads spacing 12.7mm - Body Diameter 35.7mm X Body  Height 106.7mm)
footprint CAPPR_TDK_B43540(35X55) (Capacitor, Radial, 3 Pins spacing 10mm and 4.75mm - Body Diameter 35mm X Body  Height 55mm)
footprint CAPPR_TDK_B43541(35X55) (Capacitor, Radial, 3 Pins spacing 10mm and 4.75mm - Body Diameter 35mm X Body Height 55mm)
footprint CAPPR_VISHAY_159 PUL-SI(30X45) (Capacitor, Radial, 3 Pins Spacing 10mm and 4.75mm - Body Diameter 31.0mm X Body  Height 47.0mm)
footprint CAPPR_VISHAY_PED-PW(35X50) (Capacitor, Radial, 4 Pins spacing 15mm and 17.5mm - Body Diameter 36.0mm X Body  Height 55.0mm)
footprint CAPPR_VISHAY_PED-PW(40X70) (Capacitor, Radial, 5 Leads - Body Diameter 40.0mm X Body  Height 70mm)
footprint CAP_PANASONIC_EECSE (Electric Double Layer Capacitor (Gold Capacitor) (EECSE Series))
footprint 10Dx13.5H
pins: +, -

## DNP-CAP
designator C?
(DNP) "Do Not Populate"  Ceramic Capacitor PTH; Populated: No; Value: *; Manuf1: *; Manuf2: *; Manuf1Partnumber: *; Manuf2Partnumber: *; ClassName: *; ROHS: Yes; LifeCycle: Checked; HelpURL: *; Voltage: *
footprint C025-024X044
footprint C025-025X050
footprint C025-030X050
footprint C025-040X050
footprint C025-050X050
footprint C025-060X050
footprint C025_050-024X070
footprint C025_050-025X075
footprint C025_050-035X075
footprint C025_050-045X075
footprint C025_050-055X075
footprint C050-024X044
footprint C050-025X075
footprint C050-030X075
footprint C050-035X075
footprint C050-045X075
footprint C050-050X075
footprint C050-055X075
footprint C050-075X075
footprint C075-032X103
footprint C075-042X103
footprint C075-052X106
footprint C075-063X106
footprint C102-043X133
footprint C102-054X133
footprint C102-064X133
footprint C102_152-062X184
footprint C150-054X183
footprint C150-064X183
footprint C150-072X183
footprint C150-084X183
footprint C150-091X182
footprint C225-062X268
footprint C225-074X268
footprint C225-087X268
footprint C225-108X268
footprint C225-113X268
footprint C275-093X316
footprint C275-113X316
footprint C275-134X316
footprint C275-154X316
footprint C275-173X316
footprint C275-205X316
footprint EU25-10
footprint EU35-10
footprint EU35-12
footprint EU43-14
footprint EU45-16
footprint EU45-18
footprint XC10B5
footprint XC10B6
footprint XC15B5
footprint XC15B6
footprint XC15B8
footprint XC15B10
footprint XC22B7
footprint XC22B10
footprint XC27B11
footprint XC27B13
footprint XC27B15
footprint XC27B18
footprint XC27B21
footprint YC7B5
footprint YC10B4
footprint YC10B5
footprint YC12B5
footprint YC15B5
footprint YC15B6
footprint YC15B7
footprint YC22B7
pins: 1, 2

## DNP-CAPPOL
designator C?
(DNP) "Do Not Populate"  Polarized Capacitor PTH; Populated: No; Value: *; Manuf1: *; Manuf2: *; Manuf1Partnumber: *; Manuf2Partnumber: *; ClassName: *; ROHS: Yes; LifeCycle: Checked; HelpURL: *; Voltage: *
footprint B45181A
footprint B45181B
footprint B45181C
footprint B45181D
footprint E1,8-4
footprint E2,5-4R
footprint E2,5-5
footprint E2,5-6
footprint E2,5-6E
footprint E2,5-7
footprint E2,5RE
footprint E2-4
footprint E2-5
footprint E3,5-8
footprint E3,5-10
footprint E5-4
footprint E5-5
footprint E5-6
footprint E5-8,5
footprint E5-10,5
footprint E5-13
footprint E5R
footprint E7,5-16
footprint E7,5-18
footprint E15-5
footprint E15-6
footprint E15-9
footprint E22-6
footprint E22-9
footprint E22-10
footprint E25-9
footprint E25-10
footprint E30-10
footprint E30-12
footprint E30-16
footprint E35-12
footprint E35-14
footprint E35-16
footprint E35-18
footprint E45-16
footprint E45-18
footprint E45-21
footprint E45-22
footprint E45-25
footprint E50-25
footprint E50-30
footprint E55-25
footprint E55-30
footprint EB20D
footprint EB22,5D
footprint EB25D
footprint EB30D
footprint EB35D
footprint ETR1
footprint ETR2
footprint ETR3
footprint ETR4
footprint ETR5
footprint P128-35
footprint P128-40
footprint P128-50
footprint P128-60
footprint TAP5-45
footprint TAP5-50
footprint TAP5-60
footprint TAP5-70
footprint TAP5-80
footprint TT2D4
footprint TT2D4L
footprint TT2D5
footprint TT2D5L
footprint TT2D6
footprint TT2D6L
footprint TT2D7
footprint TT2D7L
footprint TT5D9
footprint TT5D7L
footprint TT5D10
footprint TT5D11
footprint TT5D11L
pins: +, -

## DNP-IND
designator L?
(DNP) "Do Not Populate" Inductor SMD; Populated: No; Value: *; Manuf1: *; Manuf2: *; Manuf1Partnumber: *; Manuf2Partnumber: *; ClassName: *; ROHS: Yes; LifeCycle: Checked; HelpURL: *; Current: *
footprint 0204/5
footprint 0204/7
footprint 0204V
footprint 0207/2V
footprint 0207/5V
footprint 0207/7
footprint 0207/10
footprint 0207/12
footprint 0207/15
footprint 6000-XXXX-RC
footprint IR-2
footprint IR-4
footprint IRF24
footprint IRF36
footprint IRF46
footprint IRF-1
footprint IRF-3
footprint LAL02
footprint LAL03
footprint LAL03KH
footprint LAL04
footprint LAL04KB
footprint LAN02KR
footprint LAP02KR
footprint TFI0204
footprint TFI0305
footprint TFI0307
footprint TFI0410
footprint TFI0510
footprint TJ3-U1
footprint TJ3-U2
footprint TJ4-U1
footprint TJ4-U2
footprint TJ5-U1
footprint TJ5-U2
footprint TJ6-U1
footprint TJ7-U1
footprint TJ7-U2
footprint TJ8-U1
footprint TJ8-U2
footprint TJ9-U1
footprint TJ9-U2
footprint TJ6-U2
pins: 1, 2

## DNP-RES
designator R?
(DNP) "Do Not Populate" Resistor PTH; Populated: No; Value: *; Manuf1: *; Manuf2: *; Manuf1Partnumber: *; Manuf2Partnumber: *; ClassName: *; ROHS: Yes; LifeCycle: Checked; HelpURL: *; Power: *; Tolerance: *
footprint 0204/5
footprint 0204/7
footprint 0204V
footprint 0207/2V
footprint 0207/5V
footprint 0207/7
footprint 0207/10
footprint 0207/12
footprint 0207/15
footprint 0309/10
footprint 0309/12
footprint 0309V
footprint 0411/12
footprint 0411/15
footprint 0414/15
footprint 0414V
footprint 0617/17
footprint 0617/22
footprint 0617V
footprint 0922/22
footprint 0922V
footprint 2200-11.43
footprint 2200-12.7
footprint 2200-15.24
footprint RDH/15
footprint V234/12
footprint V235/17
footprint V526-0
footprint VMTA55
footprint VMTB60
footprint VTA52
footprint VTA53
footprint VTA54
footprint VTA55
footprint VTA56
pins: 1, 2

## IND-generic
designator L?
Inductor PTH; Populated: Yes; Value: *; Manuf1: *; Manuf2: *; Manuf1Partnumber: *; Manuf2Partnumber: *; ClassName: *; ROHS: Yes; LifeCycle: Checked; HelpURL: *; Current: *
footprint 0204/5
footprint 0204/7
footprint 0204V
footprint 0207/2V
footprint 0207/5V
footprint 0207/7
footprint 0207/10
footprint 0207/12
footprint 0207/15
footprint 6000-XXXX-RC
footprint IR-2
footprint IR-4
footprint IRF24
footprint IRF36
footprint IRF46
footprint IRF-1
footprint IRF-3
footprint LAL02
footprint LAL03
footprint LAL03KH
footprint LAL04
footprint LAL04KB
footprint LAN02KR
footprint LAP02KR
footprint TFI0204
footprint TFI0305
footprint TFI0307
footprint TFI0410
footprint TFI0510
footprint TJ3-U1
footprint TJ3-U2
footprint TJ4-U1
footprint TJ4-U2
footprint TJ5-U1
footprint TJ5-U2
footprint TJ6-U1
footprint TJ7-U1
footprint TJ7-U2
footprint TJ8-U1
footprint TJ8-U2
footprint TJ9-U1
footprint TJ9-U2
footprint TJ6-U2
footprint INDAD1524-920X400 (Inductor, Axial Diameter, Pad spacing 15.24 mm - Body Lengh 9.2mm X Body Diameter 4mm)
footprint BOURNS_6100-122K-RC (FIXED IND 1.2MH 570MA 2.2OHM TH, Diameter 11mm, Height 10.5mm)
footprint BOURNS_RLB0914-102KL (FIXED IND 1MH 420MA 2.1 OHM TH, 8.7mm DIA , 13mm HEIGHT)
pins: 1, 2

## LDR
designator LDR?
Value: *
footprint PHODET_PDV-P8103
pins: 1, 2

## Potentiometer
designator RV?
Potentiometer PTH; Populated: Yes; Value: *; LifeCycle: Checked; ROHS: Yes
footprint POT3-STD1
footprint TRIM_BOURNS_56AAD-C24 (Panel Control Trimming Potentiometer with Rotary (Clock Wise) SPDT Switch, Serie 56)
footprint TRIM_BOURNS_56AAD-C28 (Panel Control Trimming Potentiometer with Rotary (Clock Wise) SPDT Switch, Serie 56)
footprint TRIM_BOURNS_93R1A-R22 (1 Turn Panel Control Trimming Potentiometer 93 Series)
footprint TRIM_BOURNS_3006P (Trimming Potentiometer BOURNS 3006P Series)
footprint TRIM_BOURNS_3059Y (Trimming Potentiometer BOURNS 3059 Series)
footprint TRIM_BOURNS_3266W (Trimming Potentiometer BOURNS 3266W Series)
footprint TRIM_BOURNS_3290W (Trimming Potentiometer BOURNS 3290W Series)
footprint TRIM_BOURNS_3296P (Trimming Potentiometer BOURNS 3296P Series)
footprint TRIM_BOURNS_3296X (Trimming Potentiometer BOURNS 3296X Series)
footprint TRIM_BOURNS_3296Y (Trimming Potentiometer BOURNS 3296Y Series)
footprint TRIM_BOURNS_3296Z (Trimming Potentiometer BOURNS 3296Z Series)
footprint TRIM_BOURNS_PTL60-15R (Slide Potentiometer with Red LED, 60mm Travel Length, 15mm Lever Length, Serie PTL)
footprint TRIM_VISHAY_1280G (26 Turn Bulk Metal® Foil Technology Ultra High Precision Trimming Potentiometers, Body 19.05x4.83x7.11mm, Accutrim 1280G Series)
footprint TRIM_VISHAY_T63XB (Trimming Potentiometer VISHAY T63YB Series (Side Adjustment))
footprint TRIM_VISHAY_T63YB (Trimming Potentiometer VISHAY T63YB Series (Top Adjustment))
footprint POT MODEL91A
footprint STD-POT_MOUNT1
footprint STD-POT_MOUNT2
footprint BOURNS_PTA2043-2010CIB104 (SLIDE POT 100K OHM 0.1W TOP 20MM)
footprint TT-ELECTRONICS_P090S-14T20BR10K (POT 10K OHM 1/32W PLASTIC LINEAR)
footprint BOURNS_PTV09A-4030F-B103 (Rectangular - 0.433" x 0.382" Face (11.00mm x 9.70mm))
pins: 1, 2, 3